# EAGLE library part FLASH (library Marvin)
Micron Flash Chip
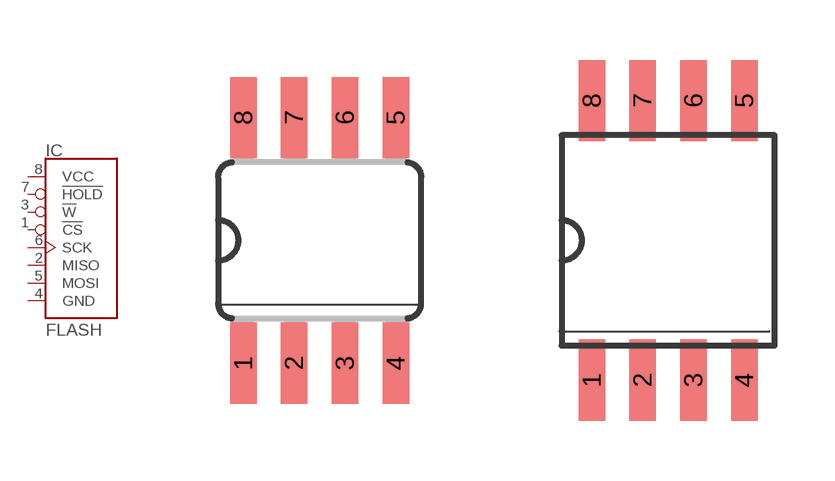
[diagram p4: symbol with the pads of SOIC8; footprints SOIC8, SO08-208]

Designator prefix IC

## FLASHA  [SOIC8]
1  !CS
2  MISO
3  !W
4  GND
5  MOSI
6  SCK
7  !HOLD
8  VCC

## FLASHB  [SO08-208]
Pads as for SOIC8

## Footprint SOIC8 (pad centres in mm)
smd 0.66 x 2.032: 1 -1.905,-3.073; 2 -0.635,-3.073; 3 0.635,-3.073; 4 1.905,-3.073; 5 1.905,3.073; 6 0.635,3.073; 7 -0.635,3.073; 8 -1.905,3.073

## Footprint SO08-208 (pad centres in mm)
SOIC .208" 8 LEAD Source: http://pdfserv.maxim-ic.com/package_dwgs/G4010-001.PDF
smd 0.66 x 2.032: 1 -1.905,-3.498; 2 -0.635,-3.498; 3 0.635,-3.498; 4 1.905,-3.498; 5 1.905,3.498; 6 0.635,3.498; 7 -0.635,3.498; 8 -1.905,3.498